# Altium footprint library Connector_Molex.PcbLib: 815 footprints (part 49 of 51)
Each footprint in its own frame and in the unit in brackets; x right, y up, seen from the top. Pads: shape width x height; smd on the part's side, far side on the other; paste and mask are expansions set on the pad; w line width, h text height; cw(c..) or ccw(c..) is an arc to the next point about the centre after c.
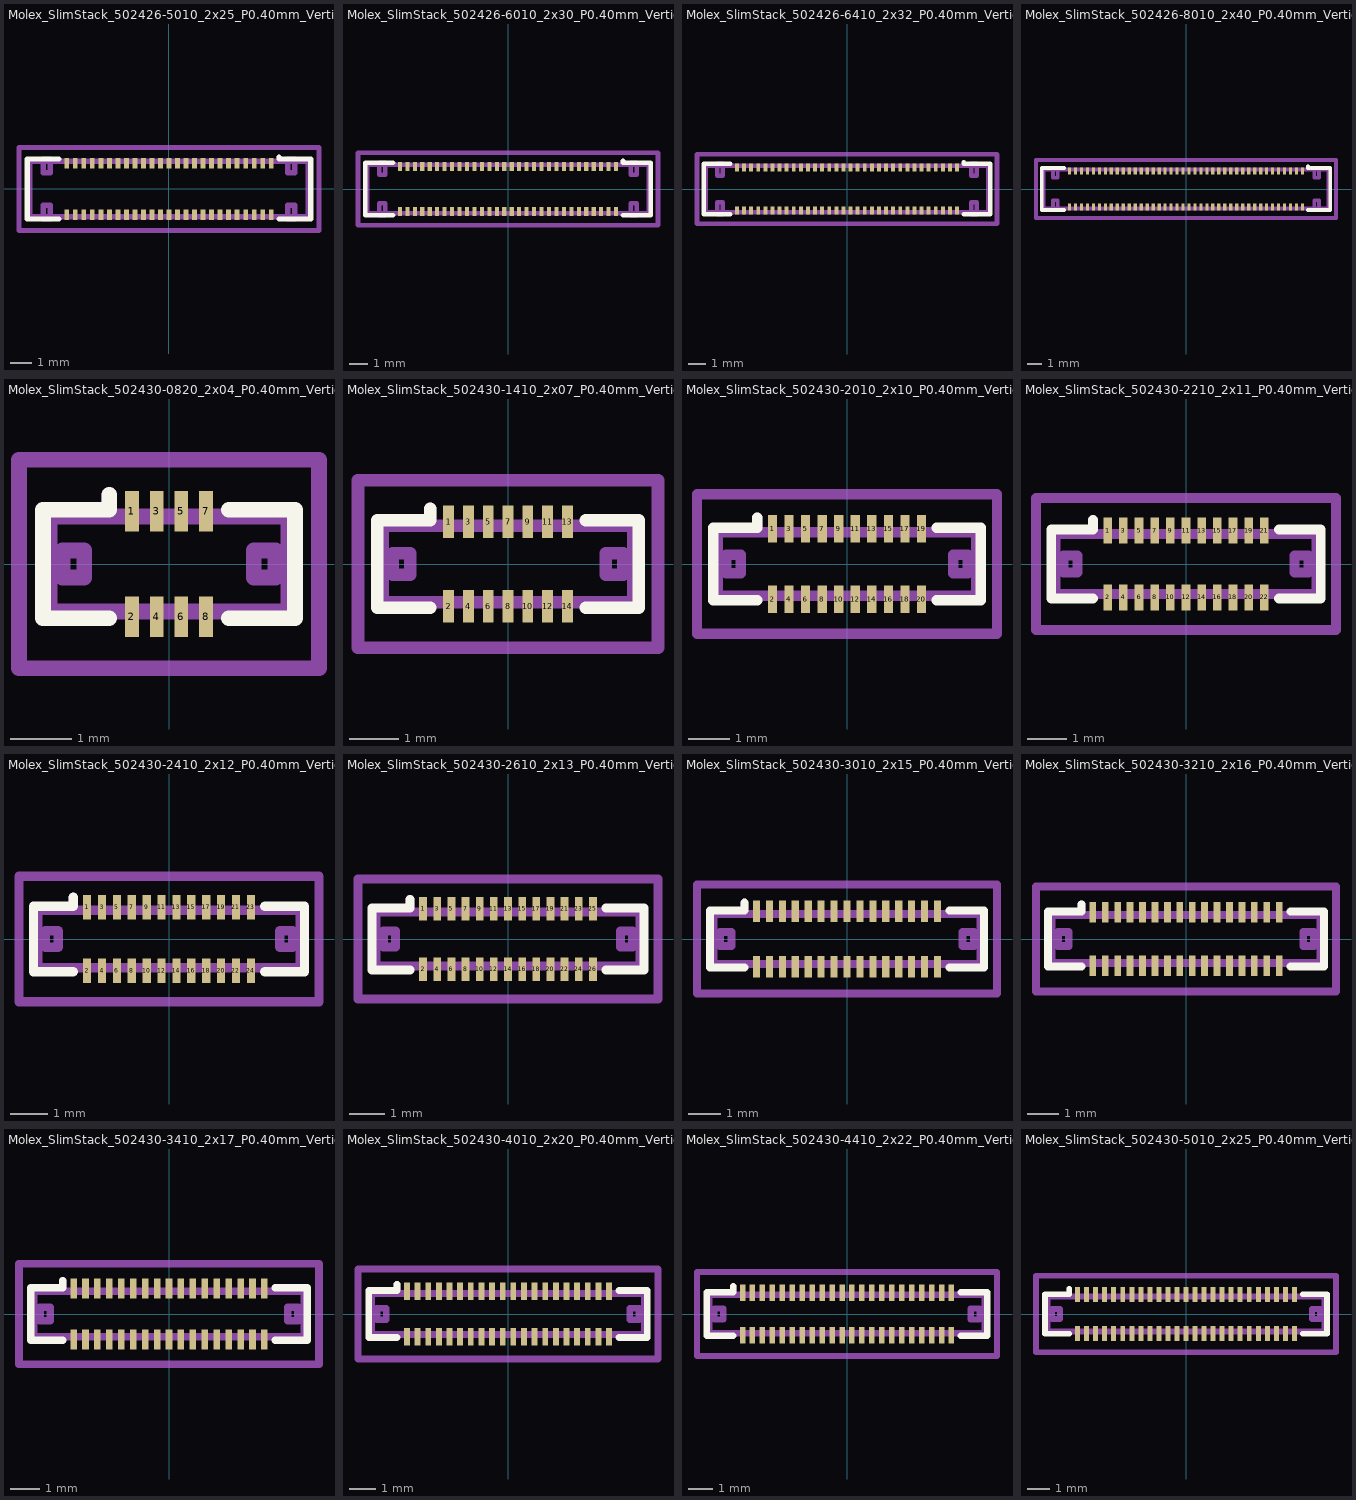
[diagram p48: the footprints below, top view; thin cyan lines are the x and y axes]

## Molex_SlimStack_502426-5010_2x25_P0.40mm_Vertical [mm]
pads (50):
  rect 0.22x0.475 smd: 1(4.8,1.212) 2(4.8,-1.212) 3(4.4,1.212) 4(4.4,-1.212) 5(4,1.212) 6(4,-1.212) 7(3.6,1.212) 8(3.6,-1.212) 9(3.2,1.212) 10(3.2,-1.212) 11(2.8,1.212) 12(2.8,-1.212) 13(2.4,1.212) 14(2.4,-1.212) 15(2,1.212) 16(2,-1.212) 17(1.6,1.212) 18(1.6,-1.212) 19(1.2,1.212) 20(1.2,-1.212) 21(0.8,1.212) 22(0.8,-1.212) 23(0.4,1.212) 24(0.4,-1.212) 25(0,1.212) 26(0,-1.212) 27(-0.4,1.212) 28(-0.4,-1.212) 29(-0.8,1.212) 30(-0.8,-1.212) 31(-1.2,1.212) 32(-1.2,-1.212) 33(-1.6,1.212) 34(-1.6,-1.212) 35(-2,1.212) 36(-2,-1.212) 37(-2.4,1.212) 38(-2.4,-1.212) 39(-2.8,1.212) 40(-2.8,-1.212) 41(-3.2,1.212) 42(-3.2,-1.212) 43(-3.6,1.212) 44(-3.6,-1.212) 45(-4,1.212) 46(-4,-1.212) 47(-4.4,1.212) 48(-4.4,-1.212) 49(-4.8,1.212) 50(-4.8,-1.212)
F.SilkS:
  lines w0.254: -5.17,-1.41 -6.66,-1.41 -6.66,1.41 -5.17,1.41 ; 5.17,-1.41 6.66,-1.41 6.66,1.41 5.17,1.41 5.17,1.5
Top Assembly:
  lines w0.254: 5.17,1.3 5.17,1.5 ; -6.55,-1.3 6.55,-1.3 6.55,1.3 -6.55,1.3 -6.55,-1.3
  text "'.Designator'" at -4.047,-0.84 h1
Top Courtyard:
  lines w0.254: -7.05,-1.95 7.05,-1.95 7.05,1.95 -7.05,1.95 -7.05,-1.95
Top Designator:
  text ".Designator" at -7.618,-0.508 h1.52
Board Shape:
  lines w0.254: -5.91,-1.41 -5.59,-1.41 -5.59,-0.76 -5.91,-0.76 -5.91,-1.41 ; -5.91,0.76 -5.59,0.76 -5.59,1.41 -5.91,1.41 -5.91,0.76 ; 5.59,-1.41 5.91,-1.41 5.91,-0.76 5.59,-0.76 5.59,-1.41 ; 5.59,0.76 5.91,0.76 5.91,1.41 5.59,1.41 5.59,0.76

## Molex_SlimStack_502426-6010_2x30_P0.40mm_Vertical [mm]
pads (60):
  rect 0.22x0.475 smd: 1(5.8,1.212) 2(5.8,-1.212) 3(5.4,1.212) 4(5.4,-1.212) 5(5,1.212) 6(5,-1.212) 7(4.6,1.212) 8(4.6,-1.212) 9(4.2,1.212) 10(4.2,-1.212) 11(3.8,1.212) 12(3.8,-1.212) 13(3.4,1.212) 14(3.4,-1.212) 15(3,1.212) 16(3,-1.212) 17(2.6,1.212) 18(2.6,-1.212) 19(2.2,1.212) 20(2.2,-1.212) 21(1.8,1.212) 22(1.8,-1.212) 23(1.4,1.212) 24(1.4,-1.212) 25(1,1.212) 26(1,-1.212) 27(0.6,1.212) 28(0.6,-1.212) 29(0.2,1.212) 30(0.2,-1.212) 31(-0.2,1.212) 32(-0.2,-1.212) 33(-0.6,1.212) 34(-0.6,-1.212) 35(-1,1.212) 36(-1,-1.212) 37(-1.4,1.212) 38(-1.4,-1.212) 39(-1.8,1.212) 40(-1.8,-1.212) 41(-2.2,1.212) 42(-2.2,-1.212) 43(-2.6,1.212) 44(-2.6,-1.212) 45(-3,1.212) 46(-3,-1.212) 47(-3.4,1.212) 48(-3.4,-1.212) 49(-3.8,1.212) 50(-3.8,-1.212) 51(-4.2,1.212) 52(-4.2,-1.212) 53(-4.6,1.212) 54(-4.6,-1.212) 55(-5,1.212) 56(-5,-1.212) 57(-5.4,1.212) 58(-5.4,-1.212) 59(-5.8,1.212) 60(-5.8,-1.212)
F.SilkS:
  lines w0.254: -6.17,-1.41 -7.66,-1.41 -7.66,1.41 -6.17,1.41 ; 6.17,-1.41 7.66,-1.41 7.66,1.41 6.17,1.41 6.17,1.5
Top Assembly:
  lines w0.254: 6.17,1.3 6.17,1.5 ; -7.55,-1.3 7.55,-1.3 7.55,1.3 -7.55,1.3 -7.55,-1.3
  text "'.Designator'" at -4.047,-0.84 h1
Top Courtyard:
  lines w0.254: -8.05,-1.95 8.05,-1.95 8.05,1.95 -8.05,1.95 -8.05,-1.95
Top Designator:
  text ".Designator" at -7.618,-0.508 h1.52
Board Shape:
  lines w0.254: -6.91,-1.41 -6.59,-1.41 -6.59,-0.76 -6.91,-0.76 -6.91,-1.41 ; -6.91,0.76 -6.59,0.76 -6.59,1.41 -6.91,1.41 -6.91,0.76 ; 6.59,-1.41 6.91,-1.41 6.91,-0.76 6.59,-0.76 6.59,-1.41 ; 6.59,0.76 6.91,0.76 6.91,1.41 6.59,1.41 6.59,0.76

## Molex_SlimStack_502426-6410_2x32_P0.40mm_Vertical [mm]
pads (64):
  rect 0.22x0.475 smd: 1(6.2,1.212) 2(6.2,-1.212) 3(5.8,1.212) 4(5.8,-1.212) 5(5.4,1.212) 6(5.4,-1.212) 7(5,1.212) 8(5,-1.212) 9(4.6,1.212) 10(4.6,-1.212) 11(4.2,1.212) 12(4.2,-1.212) 13(3.8,1.212) 14(3.8,-1.212) 15(3.4,1.212) 16(3.4,-1.212) 17(3,1.212) 18(3,-1.212) 19(2.6,1.212) 20(2.6,-1.212) 21(2.2,1.212) 22(2.2,-1.212) 23(1.8,1.212) 24(1.8,-1.212) 25(1.4,1.212) 26(1.4,-1.212) 27(1,1.212) 28(1,-1.212) 29(0.6,1.212) 30(0.6,-1.212) 31(0.2,1.212) 32(0.2,-1.212) 33(-0.2,1.212) 34(-0.2,-1.212) 35(-0.6,1.212) 36(-0.6,-1.212) 37(-1,1.212) 38(-1,-1.212) 39(-1.4,1.212) 40(-1.4,-1.212) 41(-1.8,1.212) 42(-1.8,-1.212) 43(-2.2,1.212) 44(-2.2,-1.212) 45(-2.6,1.212) 46(-2.6,-1.212) 47(-3,1.212) 48(-3,-1.212) 49(-3.4,1.212) 50(-3.4,-1.212) 51(-3.8,1.212) 52(-3.8,-1.212) 53(-4.2,1.212) 54(-4.2,-1.212) 55(-4.6,1.212) 56(-4.6,-1.212) 57(-5,1.212) 58(-5,-1.212) 59(-5.4,1.212) 60(-5.4,-1.212) 61(-5.8,1.212) 62(-5.8,-1.212) 63(-6.2,1.212) 64(-6.2,-1.212)
F.SilkS:
  lines w0.254: -6.57,-1.41 -8.06,-1.41 -8.06,1.41 -6.57,1.41 ; 6.57,-1.41 8.06,-1.41 8.06,1.41 6.57,1.41 6.57,1.5
Top Assembly:
  lines w0.254: 6.57,1.3 6.57,1.5 ; -7.95,-1.3 7.95,-1.3 7.95,1.3 -7.95,1.3 -7.95,-1.3
  text "'.Designator'" at -4.047,-0.84 h1
Top Courtyard:
  lines w0.254: -8.45,-1.95 8.45,-1.95 8.45,1.95 -8.45,1.95 -8.45,-1.95
Top Designator:
  text ".Designator" at -7.618,-0.508 h1.52
Board Shape:
  lines w0.254: -7.31,-1.41 -6.99,-1.41 -6.99,-0.76 -7.31,-0.76 -7.31,-1.41 ; -7.31,0.76 -6.99,0.76 -6.99,1.41 -7.31,1.41 -7.31,0.76 ; 6.99,-1.41 7.31,-1.41 7.31,-0.76 6.99,-0.76 6.99,-1.41 ; 6.99,0.76 7.31,0.76 7.31,1.41 6.99,1.41 6.99,0.76

## Molex_SlimStack_502426-8010_2x40_P0.40mm_Vertical [mm]
pads (80):
  rect 0.22x0.475 smd: 1(7.8,1.212) 2(7.8,-1.212) 3(7.4,1.212) 4(7.4,-1.212) 5(7,1.212) 6(7,-1.212) 7(6.6,1.212) 8(6.6,-1.212) 9(6.2,1.212) 10(6.2,-1.212) 11(5.8,1.212) 12(5.8,-1.212) 13(5.4,1.212) 14(5.4,-1.212) 15(5,1.212) 16(5,-1.212) 17(4.6,1.212) 18(4.6,-1.212) 19(4.2,1.212) 20(4.2,-1.212) 21(3.8,1.212) 22(3.8,-1.212) 23(3.4,1.212) 24(3.4,-1.212) 25(3,1.212) 26(3,-1.212) 27(2.6,1.212) 28(2.6,-1.212) 29(2.2,1.212) 30(2.2,-1.212) 31(1.8,1.212) 32(1.8,-1.212) 33(1.4,1.212) 34(1.4,-1.212) 35(1,1.212) 36(1,-1.212) 37(0.6,1.212) 38(0.6,-1.212) 39(0.2,1.212) 40(0.2,-1.212) 41(-0.2,1.212) 42(-0.2,-1.212) 43(-0.6,1.212) 44(-0.6,-1.212) 45(-1,1.212) 46(-1,-1.212) 47(-1.4,1.212) 48(-1.4,-1.212) 49(-1.8,1.212) 50(-1.8,-1.212) 51(-2.2,1.212) 52(-2.2,-1.212) 53(-2.6,1.212) 54(-2.6,-1.212) 55(-3,1.212) 56(-3,-1.212) 57(-3.4,1.212) 58(-3.4,-1.212) 59(-3.8,1.212) 60(-3.8,-1.212) 61(-4.2,1.212) 62(-4.2,-1.212) 63(-4.6,1.212) 64(-4.6,-1.212) 65(-5,1.212) 66(-5,-1.212) 67(-5.4,1.212) 68(-5.4,-1.212) 69(-5.8,1.212) 70(-5.8,-1.212) 71(-6.2,1.212) 72(-6.2,-1.212) 73(-6.6,1.212) 74(-6.6,-1.212) 75(-7,1.212) 76(-7,-1.212) 77(-7.4,1.212) 78(-7.4,-1.212) 79(-7.8,1.212) 80(-7.8,-1.212)
F.SilkS:
  lines w0.254: -8.17,-1.41 -9.66,-1.41 -9.66,1.41 -8.17,1.41 ; 8.17,-1.41 9.66,-1.41 9.66,1.41 8.17,1.41 8.17,1.5
Top Assembly:
  lines w0.254: 8.17,1.3 8.17,1.5 ; -9.55,-1.3 9.55,-1.3 9.55,1.3 -9.55,1.3 -9.55,-1.3
  text "'.Designator'" at -4.047,-0.84 h1
Top Courtyard:
  lines w0.254: -10.05,-1.95 10.05,-1.95 10.05,1.95 -10.05,1.95 -10.05,-1.95
Top Designator:
  text ".Designator" at -7.618,-0.508 h1.52
Board Shape:
  lines w0.254: -8.91,-1.41 -8.59,-1.41 -8.59,-0.76 -8.91,-0.76 -8.91,-1.41 ; -8.91,0.76 -8.59,0.76 -8.59,1.41 -8.91,1.41 -8.91,0.76 ; 8.59,-1.41 8.91,-1.41 8.91,-0.76 8.59,-0.76 8.59,-1.41 ; 8.59,0.76 8.91,0.76 8.91,1.41 8.59,1.41 8.59,0.76

## Molex_SlimStack_502430-0820_2x04_P0.40mm_Vertical [mm]
pads (8):
  rect 0.22x0.66 smd: 1(-0.6,0.855) 2(-0.6,-0.855) 3(-0.2,0.855) 4(-0.2,-0.855) 5(0.2,0.855) 6(0.2,-0.855) 7(0.6,0.855) 8(0.6,-0.855)
F.SilkS:
  lines w0.254: -0.97,-0.88 -2.04,-0.88 -2.04,0.88 -0.97,0.88 -0.97,1.12 ; 0.97,-0.88 2.04,-0.88 2.04,0.88 0.97,0.88
Top Assembly:
  lines w0.254: -0.97,0.77 -0.97,1.12 ; -1.93,-0.77 1.93,-0.77 1.93,0.77 -1.93,0.77 -1.93,-0.77
  text "'.Designator'" at -3.881,-0.803 h0.96
Top Courtyard:
  lines w0.254: -2.43,-1.69 2.43,-1.69 2.43,1.69 -2.43,1.69 -2.43,-1.69
Top Designator:
  text ".Designator" at -7.758,-0.508 h1.52
Board Shape:
  lines w0.254: -1.725,-0.22 -1.375,-0.22 -1.375,0.22 -1.725,0.22 -1.725,-0.22 ; 1.375,-0.22 1.725,-0.22 1.725,0.22 1.375,0.22 1.375,-0.22

## Molex_SlimStack_502430-1410_2x07_P0.40mm_Vertical [mm]
pads (14):
  rect 0.22x0.66 smd: 1(-1.2,0.855) 2(-1.2,-0.855) 3(-0.8,0.855) 4(-0.8,-0.855) 5(-0.4,0.855) 6(-0.4,-0.855) 7(0,0.855) 8(0,-0.855) 9(0.4,0.855) 10(0.4,-0.855) 11(0.8,0.855) 12(0.8,-0.855) 13(1.2,0.855) 14(1.2,-0.855)
F.SilkS:
  lines w0.254: -1.57,-0.88 -2.64,-0.88 -2.64,0.88 -1.57,0.88 -1.57,1.12 ; 1.57,-0.88 2.64,-0.88 2.64,0.88 1.57,0.88
Top Assembly:
  lines w0.254: -1.57,0.77 -1.57,1.12 ; -2.53,-0.77 2.53,-0.77 2.53,0.77 -2.53,0.77 -2.53,-0.77
  text "'.Designator'" at -4.047,-0.84 h1
Top Courtyard:
  lines w0.254: -3.03,-1.69 3.03,-1.69 3.03,1.69 -3.03,1.69 -3.03,-1.69
Top Designator:
  text ".Designator" at -7.768,-0.508 h1.52
Board Shape:
  lines w0.254: -2.325,-0.22 -1.975,-0.22 -1.975,0.22 -2.325,0.22 -2.325,-0.22 ; 1.975,-0.22 2.325,-0.22 2.325,0.22 1.975,0.22 1.975,-0.22

## Molex_SlimStack_502430-2010_2x10_P0.40mm_Vertical [mm]
pads (20):
  rect 0.22x0.66 smd: 1(-1.8,0.855) 2(-1.8,-0.855) 3(-1.4,0.855) 4(-1.4,-0.855) 5(-1,0.855) 6(-1,-0.855) 7(-0.6,0.855) 8(-0.6,-0.855) 9(-0.2,0.855) 10(-0.2,-0.855) 11(0.2,0.855) 12(0.2,-0.855) 13(0.6,0.855) 14(0.6,-0.855) 15(1,0.855) 16(1,-0.855) 17(1.4,0.855) 18(1.4,-0.855) 19(1.8,0.855) 20(1.8,-0.855)
F.SilkS:
  lines w0.254: -2.17,-0.88 -3.24,-0.88 -3.24,0.88 -2.17,0.88 -2.17,1.12 ; 2.17,-0.88 3.24,-0.88 3.24,0.88 2.17,0.88
Top Assembly:
  lines w0.254: -2.17,0.77 -2.17,1.12 ; -3.13,-0.77 3.13,-0.77 3.13,0.77 -3.13,0.77 -3.13,-0.77
  text "'.Designator'" at -4.047,-0.84 h1
Top Courtyard:
  lines w0.254: -3.63,-1.69 3.63,-1.69 3.63,1.69 -3.63,1.69 -3.63,-1.69
Top Designator:
  text ".Designator" at -7.768,-0.508 h1.52
Board Shape:
  lines w0.254: -2.925,-0.22 -2.575,-0.22 -2.575,0.22 -2.925,0.22 -2.925,-0.22 ; 2.575,-0.22 2.925,-0.22 2.925,0.22 2.575,0.22 2.575,-0.22

## Molex_SlimStack_502430-2210_2x11_P0.40mm_Vertical [mm]
pads (22):
  rect 0.22x0.66 smd: 1(-2,0.855) 2(-2,-0.855) 3(-1.6,0.855) 4(-1.6,-0.855) 5(-1.2,0.855) 6(-1.2,-0.855) 7(-0.8,0.855) 8(-0.8,-0.855) 9(-0.4,0.855) 10(-0.4,-0.855) 11(0,0.855) 12(0,-0.855) 13(0.4,0.855) 14(0.4,-0.855) 15(0.8,0.855) 16(0.8,-0.855) 17(1.2,0.855) 18(1.2,-0.855) 19(1.6,0.855) 20(1.6,-0.855) 21(2,0.855) 22(2,-0.855)
F.SilkS:
  lines w0.254: -2.37,-0.88 -3.44,-0.88 -3.44,0.88 -2.37,0.88 -2.37,1.12 ; 2.37,-0.88 3.44,-0.88 3.44,0.88 2.37,0.88
Top Assembly:
  lines w0.254: -2.37,0.77 -2.37,1.12 ; -3.33,-0.77 3.33,-0.77 3.33,0.77 -3.33,0.77 -3.33,-0.77
  text "'.Designator'" at -4.047,-0.84 h1
Top Courtyard:
  lines w0.254: -3.83,-1.69 3.83,-1.69 3.83,1.69 -3.83,1.69 -3.83,-1.69
Top Designator:
  text ".Designator" at -7.737,-0.508 h1.52
Board Shape:
  lines w0.254: -3.125,-0.22 -2.775,-0.22 -2.775,0.22 -3.125,0.22 -3.125,-0.22 ; 2.775,-0.22 3.125,-0.22 3.125,0.22 2.775,0.22 2.775,-0.22

## Molex_SlimStack_502430-2410_2x12_P0.40mm_Vertical [mm]
pads (24):
  rect 0.22x0.66 smd: 1(-2.2,0.855) 2(-2.2,-0.855) 3(-1.8,0.855) 4(-1.8,-0.855) 5(-1.4,0.855) 6(-1.4,-0.855) 7(-1,0.855) 8(-1,-0.855) 9(-0.6,0.855) 10(-0.6,-0.855) 11(-0.2,0.855) 12(-0.2,-0.855) 13(0.2,0.855) 14(0.2,-0.855) 15(0.6,0.855) 16(0.6,-0.855) 17(1,0.855) 18(1,-0.855) 19(1.4,0.855) 20(1.4,-0.855) 21(1.8,0.855) 22(1.8,-0.855) 23(2.2,0.855) 24(2.2,-0.855)
F.SilkS:
  lines w0.254: -2.57,-0.88 -3.64,-0.88 -3.64,0.88 -2.57,0.88 -2.57,1.12 ; 2.57,-0.88 3.64,-0.88 3.64,0.88 2.57,0.88
Top Assembly:
  lines w0.254: -2.57,0.77 -2.57,1.12 ; -3.53,-0.77 3.53,-0.77 3.53,0.77 -3.53,0.77 -3.53,-0.77
  text "'.Designator'" at -4.047,-0.84 h1
Top Courtyard:
  lines w0.254: -4.03,-1.69 4.03,-1.69 4.03,1.69 -4.03,1.69 -4.03,-1.69
Top Designator:
  text ".Designator" at -7.637,-0.508 h1.52
Board Shape:
  lines w0.254: -3.325,-0.22 -2.975,-0.22 -2.975,0.22 -3.325,0.22 -3.325,-0.22 ; 2.975,-0.22 3.325,-0.22 3.325,0.22 2.975,0.22 2.975,-0.22

## Molex_SlimStack_502430-2610_2x13_P0.40mm_Vertical [mm]
pads (26):
  rect 0.22x0.66 smd: 1(-2.4,0.855) 2(-2.4,-0.855) 3(-2,0.855) 4(-2,-0.855) 5(-1.6,0.855) 6(-1.6,-0.855) 7(-1.2,0.855) 8(-1.2,-0.855) 9(-0.8,0.855) 10(-0.8,-0.855) 11(-0.4,0.855) 12(-0.4,-0.855) 13(0,0.855) 14(0,-0.855) 15(0.4,0.855) 16(0.4,-0.855) 17(0.8,0.855) 18(0.8,-0.855) 19(1.2,0.855) 20(1.2,-0.855) 21(1.6,0.855) 22(1.6,-0.855) 23(2,0.855) 24(2,-0.855) 25(2.4,0.855) 26(2.4,-0.855)
F.SilkS:
  lines w0.254: -2.77,-0.88 -3.84,-0.88 -3.84,0.88 -2.77,0.88 -2.77,1.12 ; 2.77,-0.88 3.84,-0.88 3.84,0.88 2.77,0.88
Top Assembly:
  lines w0.254: -2.77,0.77 -2.77,1.12 ; -3.73,-0.77 3.73,-0.77 3.73,0.77 -3.73,0.77 -3.73,-0.77
  text "'.Designator'" at -4.047,-0.84 h1
Top Courtyard:
  lines w0.254: -4.24,-1.69 4.24,-1.69 4.24,1.69 -4.24,1.69 -4.24,-1.69
Top Designator:
  text ".Designator" at -7.618,-0.508 h1.52
Board Shape:
  lines w0.254: -3.525,-0.22 -3.175,-0.22 -3.175,0.22 -3.525,0.22 -3.525,-0.22 ; 3.175,-0.22 3.525,-0.22 3.525,0.22 3.175,0.22 3.175,-0.22

## Molex_SlimStack_502430-3010_2x15_P0.40mm_Vertical [mm]
pads (30):
  rect 0.22x0.66 smd: 1(-2.8,0.855) 2(-2.8,-0.855) 3(-2.4,0.855) 4(-2.4,-0.855) 5(-2,0.855) 6(-2,-0.855) 7(-1.6,0.855) 8(-1.6,-0.855) 9(-1.2,0.855) 10(-1.2,-0.855) 11(-0.8,0.855) 12(-0.8,-0.855) 13(-0.4,0.855) 14(-0.4,-0.855) 15(0,0.855) 16(0,-0.855) 17(0.4,0.855) 18(0.4,-0.855) 19(0.8,0.855) 20(0.8,-0.855) 21(1.2,0.855) 22(1.2,-0.855) 23(1.6,0.855) 24(1.6,-0.855) 25(2,0.855) 26(2,-0.855) 27(2.4,0.855) 28(2.4,-0.855) 29(2.8,0.855) 30(2.8,-0.855)
F.SilkS:
  lines w0.254: -3.17,-0.88 -4.24,-0.88 -4.24,0.88 -3.17,0.88 -3.17,1.12 ; 3.17,-0.88 4.24,-0.88 4.24,0.88 3.17,0.88
Top Assembly:
  lines w0.254: -3.17,0.77 -3.17,1.12 ; -4.13,-0.77 4.13,-0.77 4.13,0.77 -4.13,0.77 -4.13,-0.77
  text "'.Designator'" at -4.047,-0.84 h1
Top Courtyard:
  lines w0.254: -4.64,-1.69 4.64,-1.69 4.64,1.69 -4.64,1.69 -4.64,-1.69
Top Designator:
  text ".Designator" at -7.618,-0.508 h1.52
Board Shape:
  lines w0.254: -3.925,-0.22 -3.575,-0.22 -3.575,0.22 -3.925,0.22 -3.925,-0.22 ; 3.575,-0.22 3.925,-0.22 3.925,0.22 3.575,0.22 3.575,-0.22

## Molex_SlimStack_502430-3210_2x16_P0.40mm_Vertical [mm]
pads (32):
  rect 0.22x0.66 smd: 1(-3,0.855) 2(-3,-0.855) 3(-2.6,0.855) 4(-2.6,-0.855) 5(-2.2,0.855) 6(-2.2,-0.855) 7(-1.8,0.855) 8(-1.8,-0.855) 9(-1.4,0.855) 10(-1.4,-0.855) 11(-1,0.855) 12(-1,-0.855) 13(-0.6,0.855) 14(-0.6,-0.855) 15(-0.2,0.855) 16(-0.2,-0.855) 17(0.2,0.855) 18(0.2,-0.855) 19(0.6,0.855) 20(0.6,-0.855) 21(1,0.855) 22(1,-0.855) 23(1.4,0.855) 24(1.4,-0.855) 25(1.8,0.855) 26(1.8,-0.855) 27(2.2,0.855) 28(2.2,-0.855) 29(2.6,0.855) 30(2.6,-0.855) 31(3,0.855) 32(3,-0.855)
F.SilkS:
  lines w0.254: -3.37,-0.88 -4.44,-0.88 -4.44,0.88 -3.37,0.88 -3.37,1.12 ; 3.37,-0.88 4.44,-0.88 4.44,0.88 3.37,0.88
Top Assembly:
  lines w0.254: -3.37,0.77 -3.37,1.12 ; -4.33,-0.77 4.33,-0.77 4.33,0.77 -4.33,0.77 -4.33,-0.77
  text "'.Designator'" at -4.047,-0.84 h1
Top Courtyard:
  lines w0.254: -4.83,-1.69 4.83,-1.69 4.83,1.69 -4.83,1.69 -4.83,-1.69
Top Designator:
  text ".Designator" at -7.618,-0.508 h1.52
Board Shape:
  lines w0.254: -4.125,-0.22 -3.775,-0.22 -3.775,0.22 -4.125,0.22 -4.125,-0.22 ; 3.775,-0.22 4.125,-0.22 4.125,0.22 3.775,0.22 3.775,-0.22

## Molex_SlimStack_502430-3410_2x17_P0.40mm_Vertical [mm]
pads (34):
  rect 0.22x0.66 smd: 1(-3.2,0.855) 2(-3.2,-0.855) 3(-2.8,0.855) 4(-2.8,-0.855) 5(-2.4,0.855) 6(-2.4,-0.855) 7(-2,0.855) 8(-2,-0.855) 9(-1.6,0.855) 10(-1.6,-0.855) 11(-1.2,0.855) 12(-1.2,-0.855) 13(-0.8,0.855) 14(-0.8,-0.855) 15(-0.4,0.855) 16(-0.4,-0.855) 17(0,0.855) 18(0,-0.855) 19(0.4,0.855) 20(0.4,-0.855) 21(0.8,0.855) 22(0.8,-0.855) 23(1.2,0.855) 24(1.2,-0.855) 25(1.6,0.855) 26(1.6,-0.855) 27(2,0.855) 28(2,-0.855) 29(2.4,0.855) 30(2.4,-0.855) 31(2.8,0.855) 32(2.8,-0.855) 33(3.2,0.855) 34(3.2,-0.855)
F.SilkS:
  lines w0.254: -3.57,-0.88 -4.64,-0.88 -4.64,0.88 -3.57,0.88 -3.57,1.12 ; 3.57,-0.88 4.64,-0.88 4.64,0.88 3.57,0.88
Top Assembly:
  lines w0.254: -3.57,0.77 -3.57,1.12 ; -4.53,-0.77 4.53,-0.77 4.53,0.77 -4.53,0.77 -4.53,-0.77
  text "'.Designator'" at -4.047,-0.84 h1
Top Courtyard:
  lines w0.254: -5.03,-1.69 5.03,-1.69 5.03,1.69 -5.03,1.69 -5.03,-1.69
Top Designator:
  text ".Designator" at -7.618,-0.508 h1.52
Board Shape:
  lines w0.254: -4.325,-0.22 -3.975,-0.22 -3.975,0.22 -4.325,0.22 -4.325,-0.22 ; 3.975,-0.22 4.325,-0.22 4.325,0.22 3.975,0.22 3.975,-0.22

## Molex_SlimStack_502430-4010_2x20_P0.40mm_Vertical [mm]
pads (40):
  rect 0.22x0.66 smd: 1(-3.8,0.855) 2(-3.8,-0.855) 3(-3.4,0.855) 4(-3.4,-0.855) 5(-3,0.855) 6(-3,-0.855) 7(-2.6,0.855) 8(-2.6,-0.855) 9(-2.2,0.855) 10(-2.2,-0.855) 11(-1.8,0.855) 12(-1.8,-0.855) 13(-1.4,0.855) 14(-1.4,-0.855) 15(-1,0.855) 16(-1,-0.855) 17(-0.6,0.855) 18(-0.6,-0.855) 19(-0.2,0.855) 20(-0.2,-0.855) 21(0.2,0.855) 22(0.2,-0.855) 23(0.6,0.855) 24(0.6,-0.855) 25(1,0.855) 26(1,-0.855) 27(1.4,0.855) 28(1.4,-0.855) 29(1.8,0.855) 30(1.8,-0.855) 31(2.2,0.855) 32(2.2,-0.855) 33(2.6,0.855) 34(2.6,-0.855) 35(3,0.855) 36(3,-0.855) 37(3.4,0.855) 38(3.4,-0.855) 39(3.8,0.855) 40(3.8,-0.855)
F.SilkS:
  lines w0.254: -4.17,-0.88 -5.24,-0.88 -5.24,0.88 -4.17,0.88 -4.17,1.12 ; 4.17,-0.88 5.24,-0.88 5.24,0.88 4.17,0.88
Top Assembly:
  lines w0.254: -4.17,0.77 -4.17,1.12 ; -5.13,-0.77 5.13,-0.77 5.13,0.77 -5.13,0.77 -5.13,-0.77
  text "'.Designator'" at -4.047,-0.84 h1
Top Courtyard:
  lines w0.254: -5.64,-1.69 5.64,-1.69 5.64,1.69 -5.64,1.69 -5.64,-1.69
Top Designator:
  text ".Designator" at -7.618,-0.508 h1.52
Board Shape:
  lines w0.254: -4.925,-0.22 -4.575,-0.22 -4.575,0.22 -4.925,0.22 -4.925,-0.22 ; 4.575,-0.22 4.925,-0.22 4.925,0.22 4.575,0.22 4.575,-0.22

## Molex_SlimStack_502430-4410_2x22_P0.40mm_Vertical [mm]
pads (44):
  rect 0.22x0.66 smd: 1(-4.2,0.855) 2(-4.2,-0.855) 3(-3.8,0.855) 4(-3.8,-0.855) 5(-3.4,0.855) 6(-3.4,-0.855) 7(-3,0.855) 8(-3,-0.855) 9(-2.6,0.855) 10(-2.6,-0.855) 11(-2.2,0.855) 12(-2.2,-0.855) 13(-1.8,0.855) 14(-1.8,-0.855) 15(-1.4,0.855) 16(-1.4,-0.855) 17(-1,0.855) 18(-1,-0.855) 19(-0.6,0.855) 20(-0.6,-0.855) 21(-0.2,0.855) 22(-0.2,-0.855) 23(0.2,0.855) 24(0.2,-0.855) 25(0.6,0.855) 26(0.6,-0.855) 27(1,0.855) 28(1,-0.855) 29(1.4,0.855) 30(1.4,-0.855) 31(1.8,0.855) 32(1.8,-0.855) 33(2.2,0.855) 34(2.2,-0.855) 35(2.6,0.855) 36(2.6,-0.855) 37(3,0.855) 38(3,-0.855) 39(3.4,0.855) 40(3.4,-0.855) 41(3.8,0.855) 42(3.8,-0.855) 43(4.2,0.855) 44(4.2,-0.855)
F.SilkS:
  lines w0.254: -4.57,-0.88 -5.64,-0.88 -5.64,0.88 -4.57,0.88 -4.57,1.12 ; 4.57,-0.88 5.64,-0.88 5.64,0.88 4.57,0.88
Top Assembly:
  lines w0.254: -4.57,0.77 -4.57,1.12 ; -5.53,-0.77 5.53,-0.77 5.53,0.77 -5.53,0.77 -5.53,-0.77
  text "'.Designator'" at -4.047,-0.84 h1
Top Courtyard:
  lines w0.254: -6.03,-1.69 6.03,-1.69 6.03,1.69 -6.03,1.69 -6.03,-1.69
Top Designator:
  text ".Designator" at -7.618,-0.508 h1.52
Board Shape:
  lines w0.254: -5.325,-0.22 -4.975,-0.22 -4.975,0.22 -5.325,0.22 -5.325,-0.22 ; 4.975,-0.22 5.325,-0.22 5.325,0.22 4.975,0.22 4.975,-0.22

## Molex_SlimStack_502430-5010_2x25_P0.40mm_Vertical [mm]
pads (50):
  rect 0.22x0.66 smd: 1(-4.8,0.855) 2(-4.8,-0.855) 3(-4.4,0.855) 4(-4.4,-0.855) 5(-4,0.855) 6(-4,-0.855) 7(-3.6,0.855) 8(-3.6,-0.855) 9(-3.2,0.855) 10(-3.2,-0.855) 11(-2.8,0.855) 12(-2.8,-0.855) 13(-2.4,0.855) 14(-2.4,-0.855) 15(-2,0.855) 16(-2,-0.855) 17(-1.6,0.855) 18(-1.6,-0.855) 19(-1.2,0.855) 20(-1.2,-0.855) 21(-0.8,0.855) 22(-0.8,-0.855) 23(-0.4,0.855) 24(-0.4,-0.855) 25(0,0.855) 26(0,-0.855) 27(0.4,0.855) 28(0.4,-0.855) 29(0.8,0.855) 30(0.8,-0.855) 31(1.2,0.855) 32(1.2,-0.855) 33(1.6,0.855) 34(1.6,-0.855) 35(2,0.855) 36(2,-0.855) 37(2.4,0.855) 38(2.4,-0.855) 39(2.8,0.855) 40(2.8,-0.855) 41(3.2,0.855) 42(3.2,-0.855) 43(3.6,0.855) 44(3.6,-0.855) 45(4,0.855) 46(4,-0.855) 47(4.4,0.855) 48(4.4,-0.855) 49(4.8,0.855) 50(4.8,-0.855)
F.SilkS:
  lines w0.254: -5.17,-0.88 -6.24,-0.88 -6.24,0.88 -5.17,0.88 -5.17,1.12 ; 5.17,-0.88 6.24,-0.88 6.24,0.88 5.17,0.88
Top Assembly:
  lines w0.254: -5.17,0.77 -5.17,1.12 ; -6.13,-0.77 6.13,-0.77 6.13,0.77 -6.13,0.77 -6.13,-0.77
  text "'.Designator'" at -4.047,-0.84 h1
Top Courtyard:
  lines w0.254: -6.64,-1.69 6.64,-1.69 6.64,1.69 -6.64,1.69 -6.64,-1.69
Top Designator:
  text ".Designator" at -7.618,-0.508 h1.52
Board Shape:
  lines w0.254: -5.925,-0.22 -5.575,-0.22 -5.575,0.22 -5.925,0.22 -5.925,-0.22 ; 5.575,-0.22 5.925,-0.22 5.925,0.22 5.575,0.22 5.575,-0.22